# Altium footprint library Connector_PinSocket_2.00mm.PcbLib: 278 footprints (part 14 of 18)
Each footprint in its own frame and in the unit in brackets; x right, y up, seen from the top. Pads: shape width x height; smd on the part's side, far side on the other; paste and mask are expansions set on the pad; w line width, h text height; cw(c..) or ccw(c..) is an arc to the next point about the centre after c.
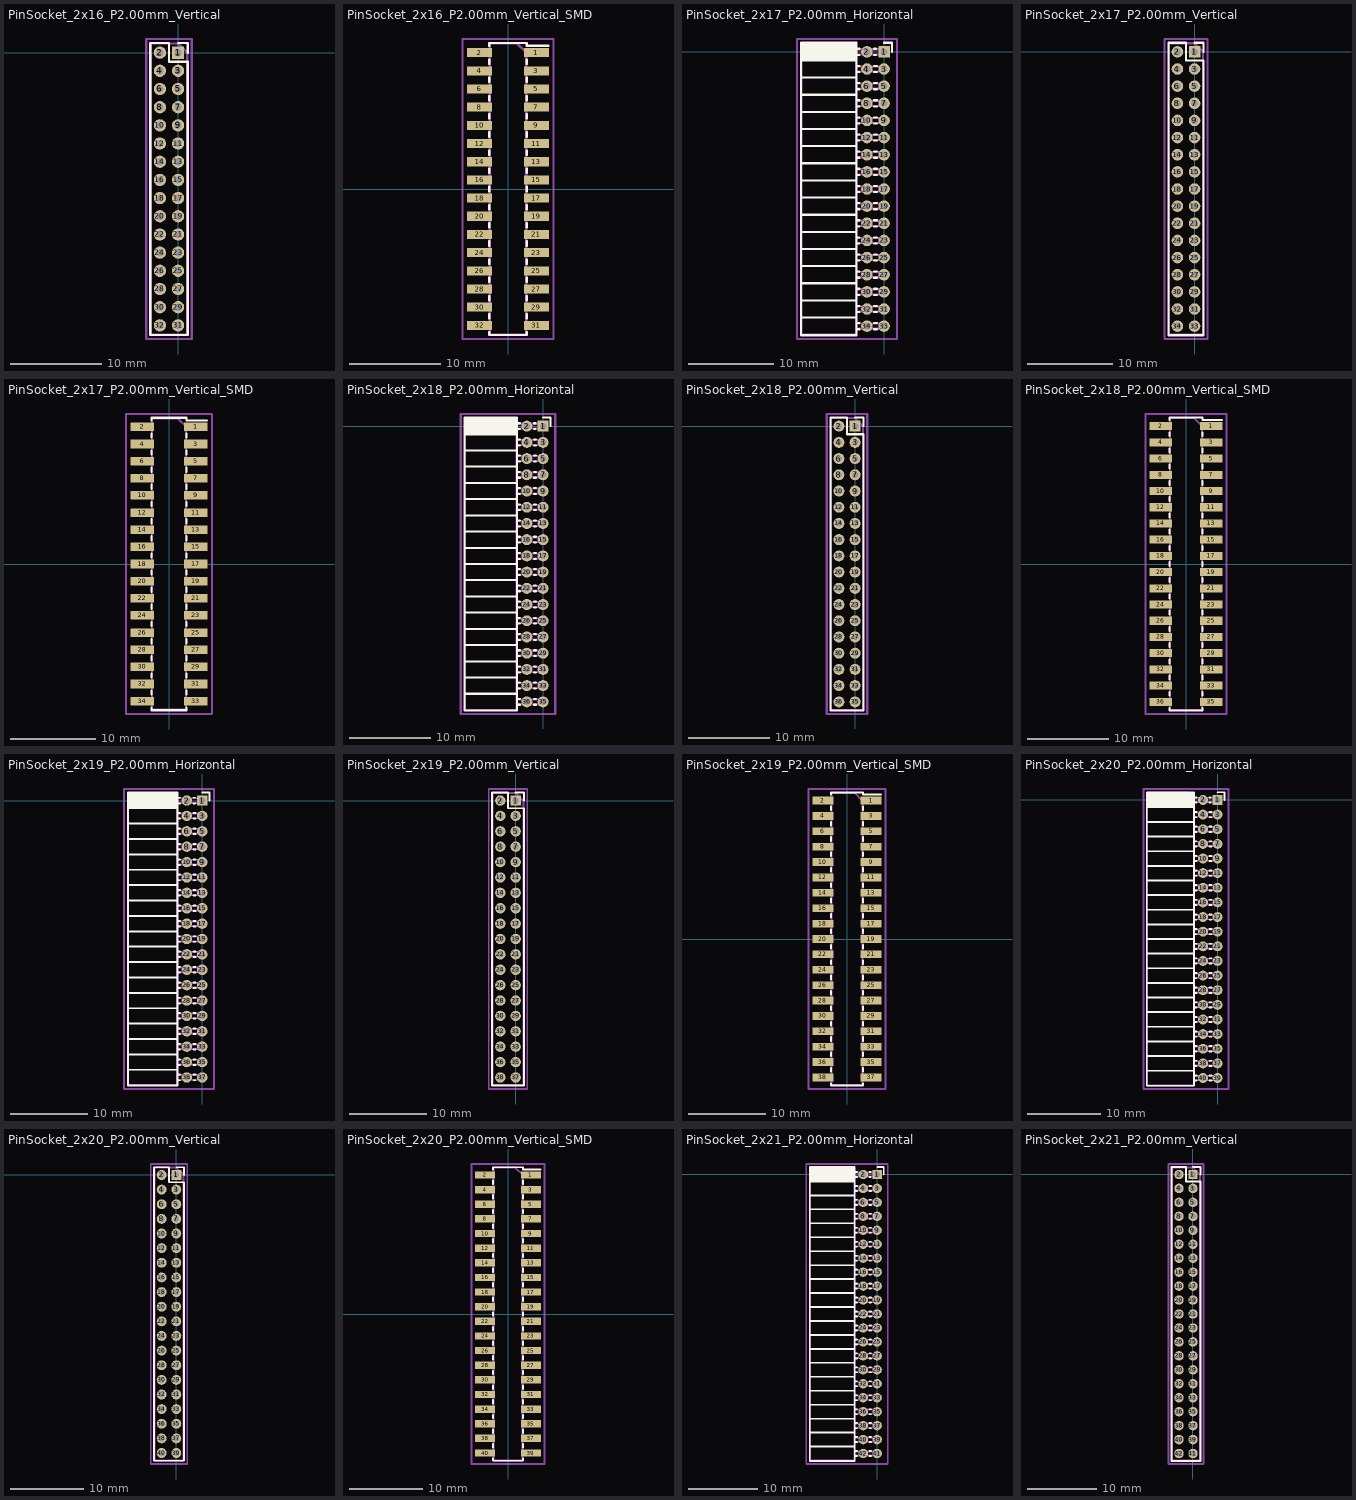
[diagram p13: the footprints below, top view; thin cyan lines are the x and y axes]

## PinSocket_2x16_P2.00mm_Vertical [mm]
pads (32):
  rect 1.35x1.35 hole 0.8: 1(0,0)
  round 1.35 hole 0.8: 2(-2,0) 3(0,-2) 4(-2,-2) 5(0,-4) 6(-2,-4) 7(0,-6) 8(-2,-6) 9(0,-8) 10(-2,-8) 11(0,-10) 12(-2,-10) 13(0,-12) 14(-2,-12) 15(0,-14) 16(-2,-14) 17(0,-16) 18(-2,-16) 19(0,-18) 20(-2,-18) 21(0,-20) 22(-2,-20) 23(0,-22) 24(-2,-22) 25(0,-24) 26(-2,-24) 27(0,-26) 28(-2,-26) 29(0,-28) 30(-2,-28) 31(0,-30) 32(-2,-30)
F.SilkS:
  lines w0.254: 0,1.06 1.06,1.06 1.06,0 ; -3.06,-31.06 1.06,-31.06 1.06,-1 -1,-1 -1,1.06 -3.06,1.06 -3.06,-31.06
Top Assembly:
  lines w0.254: -3,-31 1,-31 1,0 0,1 -3,1 -3,-31
  text "'.Designator'" at -0.16,-19.047 h1
Top Courtyard:
  lines w0.254: -3.5,-31.5 1.5,-31.5 1.5,1.5 -3.5,1.5 -3.5,-31.5
Top Designator:
  text ".Designator" at -8.618,-15.508 h1.52

## PinSocket_2x16_P2.00mm_Vertical_SMD [mm]
pads (32):
  rect 2.75x1 smd: 1(3.125,15) 2(-3.125,15) 3(3.125,13) 4(-3.125,13) 5(3.125,11) 6(-3.125,11) 7(3.125,9) 8(-3.125,9) 9(3.125,7) 10(-3.125,7) 11(3.125,5) 12(-3.125,5) 13(3.125,3) 14(-3.125,3) 15(3.125,1) 16(-3.125,1) 17(3.125,-1) 18(-3.125,-1) 19(3.125,-3) 20(-3.125,-3) 21(3.125,-5) 22(-3.125,-5) 23(3.125,-7) 24(-3.125,-7) 25(3.125,-9) 26(-3.125,-9) 27(3.125,-11) 28(-3.125,-11) 29(3.125,-13) 30(-3.125,-13) 31(3.125,-15) 32(-3.125,-15)
F.SilkS:
  lines w0.254: -2.06,-15.76 -2.06,-16.06 2.06,-16.06 2.06,-15.76 ; -2.06,-14.24 -2.06,-13.76 ; -2.06,-12.24 -2.06,-11.76 ; -2.06,-10.24 -2.06,-9.76 ; -2.06,-8.24 -2.06,-7.76 ; -2.06,-6.24 -2.06,-5.76 ; -2.06,-4.24 -2.06,-3.76 ; -2.06,-2.24 -2.06,-1.76 ; -2.06,-0.24 -2.06,0.24 ; -2.06,1.76 -2.06,2.24 ; -2.06,3.76 -2.06,4.24 ; -2.06,5.76 -2.06,6.24 ; -2.06,7.76 -2.06,8.24 ; -2.06,9.76 -2.06,10.24 ; -2.06,11.76 -2.06,12.24 ; -2.06,13.76 -2.06,14.24 ; -2.06,15.76 -2.06,16.06 2.06,16.06 2.06,15.76 4.44,15.76 ; 2.06,-14.24 2.06,-13.76 ; 2.06,-12.24 2.06,-11.76 ; 2.06,-10.24 2.06,-9.76 ; 2.06,-8.24 2.06,-7.76 ; 2.06,-6.24 2.06,-5.76 ; 2.06,-4.24 2.06,-3.76 ; 2.06,-2.24 2.06,-1.76 ; 2.06,-0.24 2.06,0.24 ; 2.06,1.76 2.06,2.24 ; 2.06,3.76 2.06,4.24 ; 2.06,5.76 2.06,6.24 ; 2.06,7.76 2.06,8.24 ; 2.06,9.76 2.06,10.24 ; 2.06,11.76 2.06,12.24 ; 2.06,13.76 2.06,14.24
Top Assembly:
  lines w0.254: -2,-15.25 -3,-15.25 -3,-14.75 -2,-14.75 ; -2,-13.25 -3,-13.25 -3,-12.75 -2,-12.75 ; -2,-11.25 -3,-11.25 -3,-10.75 -2,-10.75 ; -2,-9.25 -3,-9.25 -3,-8.75 -2,-8.75 ; -2,-7.25 -3,-7.25 -3,-6.75 -2,-6.75 ; -2,-5.25 -3,-5.25 -3,-4.75 -2,-4.75 ; -2,-3.25 -3,-3.25 -3,-2.75 -2,-2.75 ; -2,-1.25 -3,-1.25 -3,-0.75 -2,-0.75 ; -2,0.75 -3,0.75 -3,1.25 -2,1.25 ; -2,2.75 -3,2.75 -3,3.25 -2,3.25 ; -2,4.75 -3,4.75 -3,5.25 -2,5.25 ; -2,6.75 -3,6.75 -3,7.25 -2,7.25 ; -2,8.75 -3,8.75 -3,9.25 -2,9.25 ; -2,10.75 -3,10.75 -3,11.25 -2,11.25 ; -2,12.75 -3,12.75 -3,13.25 -2,13.25 ; -2,14.75 -3,14.75 -3,15.25 -2,15.25 ; 2,-15.25 3,-15.25 3,-14.75 2,-14.75 ; 2,-13.25 3,-13.25 3,-12.75 2,-12.75 ; 2,-11.25 3,-11.25 3,-10.75 2,-10.75 ; 2,-9.25 3,-9.25 3,-8.75 2,-8.75 ; 2,-7.25 3,-7.25 3,-6.75 2,-6.75 ; 2,-5.25 3,-5.25 3,-4.75 2,-4.75 ; 2,-3.25 3,-3.25 3,-2.75 2,-2.75 ; 2,-1.25 3,-1.25 3,-0.75 2,-0.75 ; 2,0.75 3,0.75 3,1.25 2,1.25 ; 2,2.75 3,2.75 3,3.25 2,3.25 ; 2,4.75 3,4.75 3,5.25 2,5.25 ; 2,6.75 3,6.75 3,7.25 2,7.25 ; 2,8.75 3,8.75 3,9.25 2,9.25 ; 2,10.75 3,10.75 3,11.25 2,11.25 ; 2,12.75 3,12.75 3,13.25 2,13.25 ; 2,14.75 3,14.75 3,15.25 2,15.25 ; -2,-16 2,-16 2,15 1,16 -2,16 -2,-16
  text "'.Designator'" at 0.84,-4.047 h1
Top Courtyard:
  lines w0.254: -5,-16.5 5,-16.5 5,16.5 -5,16.5 -5,-16.5
Top Designator:
  text ".Designator" at -7.618,-0.508 h1.52

## PinSocket_2x17_P2.00mm_Horizontal [mm]
pads (34):
  rect 1.35x1.35 hole 0.8: 1(0,0)
  round 1.35 hole 0.8: 2(-2,0) 3(0,-2) 4(-2,-2) 5(0,-4) 6(-2,-4) 7(0,-6) 8(-2,-6) 9(0,-8) 10(-2,-8) 11(0,-10) 12(-2,-10) 13(0,-12) 14(-2,-12) 15(0,-14) 16(-2,-14) 17(0,-16) 18(-2,-16) 19(0,-18) 20(-2,-18) 21(0,-20) 22(-2,-20) 23(0,-22) 24(-2,-22) 25(0,-24) 26(-2,-24) 27(0,-26) 28(-2,-26) 29(0,-28) 30(-2,-28) 31(0,-30) 32(-2,-30) 33(0,-32) 34(-2,-32)
F.SilkS:
  lines w0.254: -9.68,-31 -3.21,-31 ; -9.68,-29 -3.21,-29 ; -9.68,-27 -3.21,-27 ; -9.68,-25 -3.21,-25 ; -9.68,-23 -3.21,-23 ; -9.68,-21 -3.21,-21 ; -9.68,-19 -3.21,-19 ; -9.68,-17 -3.21,-17 ; -9.68,-15 -3.21,-15 ; -9.68,-13 -3.21,-13 ; -9.68,-11 -3.21,-11 ; -9.68,-9 -3.21,-9 ; -9.68,-7 -3.21,-7 ; -9.68,-5 -3.21,-5 ; -9.68,-3 -3.21,-3 ; -9.68,-1 -3.21,-1 ; -9.68,-0.886 -3.21,-0.886 ; -9.68,-0.772 -3.21,-0.772 ; -9.68,-0.658 -3.21,-0.658 ; -9.68,-0.544 -3.21,-0.544 ; -9.68,-0.429 -3.21,-0.429 ; -9.68,-0.315 -3.21,-0.315 ; -9.68,-0.201 -3.21,-0.201 ; -9.68,-0.087 -3.21,-0.087 ; -9.68,0.027 -3.21,0.027 ; -9.68,0.141 -3.21,0.141 ; -9.68,0.255 -3.21,0.255 ; -9.68,0.369 -3.21,0.369 ; -9.68,0.484 -3.21,0.484 ; -9.68,0.598 -3.21,0.598 ; -9.68,0.712 -3.21,0.712 ; -9.68,0.826 -3.21,0.826 ; -9.68,0.94 -3.21,0.94 ; -3.21,-32.36 -2.863,-32.36 ; -3.21,-31.64 -2.863,-31.64 ; -3.21,-30.36 -2.863,-30.36 ; -3.21,-29.64 -2.863,-29.64 ; -3.21,-28.36 -2.863,-28.36 ; -3.21,-27.64 -2.863,-27.64 ; -3.21,-26.36 -2.863,-26.36 ; -3.21,-25.64 -2.863,-25.64 ; -3.21,-24.36 -2.863,-24.36 ; -3.21,-23.64 -2.863,-23.64 ; -3.21,-22.36 -2.863,-22.36 ; -3.21,-21.64 -2.863,-21.64 ; -3.21,-20.36 -2.863,-20.36 ; -3.21,-19.64 -2.863,-19.64 ; -3.21,-18.36 -2.863,-18.36 ; -3.21,-17.64 -2.863,-17.64 ; -3.21,-16.36 -2.863,-16.36 ; -3.21,-15.64 -2.863,-15.64 ; -3.21,-14.36 -2.863,-14.36 ; -3.21,-13.64 -2.863,-13.64 ; -3.21,-12.36 -2.863,-12.36 ; -3.21,-11.64 -2.863,-11.64 ; -3.21,-10.36 -2.863,-10.36 ; -3.21,-9.64 -2.863,-9.64 ; -3.21,-8.36 -2.863,-8.36 ; -3.21,-7.64 -2.863,-7.64 ; -3.21,-6.36 -2.863,-6.36 ; -3.21,-5.64 -2.863,-5.64 ; -3.21,-4.36 -2.863,-4.36 ; -3.21,-3.64 -2.863,-3.64 ; -3.21,-2.36 -2.863,-2.36 ; -3.21,-1.64 -2.863,-1.64 ; -3.21,-0.36 -2.863,-0.36 ; -3.21,0.36 -2.863,0.36 ; -1.137,-32.36 -0.863,-32.36 ; -1.137,-31.64 -0.863,-31.64 ; -1.137,-30.36 -0.863,-30.36 ; -1.137,-29.64 -0.863,-29.64 ; -1.137,-28.36 -0.863,-28.36 ; -1.137,-27.64 -0.863,-27.64 ; -1.137,-26.36 -0.863,-26.36 ; -1.137,-25.64 -0.863,-25.64 ; -1.137,-24.36 -0.863,-24.36 ; -1.137,-23.64 -0.863,-23.64 ; -1.137,-22.36 -0.863,-22.36 ; -1.137,-21.64 -0.863,-21.64 ; -1.137,-20.36 -0.863,-20.36 ; -1.137,-19.64 -0.863,-19.64 ; -1.137,-18.36 -0.863,-18.36 ; -1.137,-17.64 -0.863,-17.64 ; -1.137,-16.36 -0.863,-16.36 ; -1.137,-15.64 -0.863,-15.64 ; -1.137,-14.36 -0.863,-14.36 ; -1.137,-13.64 -0.863,-13.64 ; -1.137,-12.36 -0.863,-12.36 ; -1.137,-11.64 -0.863,-11.64 ; -1.137,-10.36 -0.863,-10.36 ; -1.137,-9.64 -0.863,-9.64 ; -1.137,-8.36 -0.863,-8.36 ; -1.137,-7.64 -0.863,-7.64 ; -1.137,-6.36 -0.863,-6.36 ; -1.137,-5.64 -0.863,-5.64 ; -1.137,-4.36 -0.863,-4.36 ; -1.137,-3.64 -0.863,-3.64 ; -1.137,-2.36 -0.863,-2.36 ; -1.137,-1.64 -0.863,-1.64 ; -1.137,-0.36 -0.935,-0.36 ; -1.137,0.36 -0.935,0.36 ; 0,1.06 0.935,1.06 0.935,0 ; -9.68,-33.06 -3.21,-33.06 -3.21,1.06 -9.68,1.06 -9.68,-33.06
Top Assembly:
  lines w0.254: -3.27,-32.3 0,-32.3 0,-31.7 -3.27,-31.7 ; -3.27,-30.3 0,-30.3 0,-29.7 -3.27,-29.7 ; -3.27,-28.3 0,-28.3 0,-27.7 -3.27,-27.7 ; -3.27,-26.3 0,-26.3 0,-25.7 -3.27,-25.7 ; -3.27,-24.3 0,-24.3 0,-23.7 -3.27,-23.7 ; -3.27,-22.3 0,-22.3 0,-21.7 -3.27,-21.7 ; -3.27,-20.3 0,-20.3 0,-19.7 -3.27,-19.7 ; -3.27,-18.3 0,-18.3 0,-17.7 -3.27,-17.7 ; -3.27,-16.3 0,-16.3 0,-15.7 -3.27,-15.7 ; -3.27,-14.3 0,-14.3 0,-13.7 -3.27,-13.7 ; -3.27,-12.3 0,-12.3 0,-11.7 -3.27,-11.7 ; -3.27,-10.3 0,-10.3 0,-9.7 -3.27,-9.7 ; -3.27,-8.3 0,-8.3 0,-7.7 -3.27,-7.7 ; -3.27,-6.3 0,-6.3 0,-5.7 -3.27,-5.7 ; -3.27,-4.3 0,-4.3 0,-3.7 -3.27,-3.7 ; -3.27,-2.3 0,-2.3 0,-1.7 -3.27,-1.7 ; -3.27,-0.3 0,-0.3 0,0.3 -3.27,0.3 ; -3.27,0.3 -3.27,-33 -9.62,-33 -9.62,1 -3.97,1 -3.27,0.3
  text "'.Designator'" at -5.605,-20.047 h1
Top Courtyard:
  lines w0.254: -10.15,-33.5 1.5,-33.5 1.5,1.5 -10.15,1.5 -10.15,-33.5
Top Designator:
  text ".Designator" at -11.943,-16.508 h1.52

## PinSocket_2x17_P2.00mm_Vertical [mm]
pads (34):
  rect 1.35x1.35 hole 0.8: 1(0,0)
  round 1.35 hole 0.8: 2(-2,0) 3(0,-2) 4(-2,-2) 5(0,-4) 6(-2,-4) 7(0,-6) 8(-2,-6) 9(0,-8) 10(-2,-8) 11(0,-10) 12(-2,-10) 13(0,-12) 14(-2,-12) 15(0,-14) 16(-2,-14) 17(0,-16) 18(-2,-16) 19(0,-18) 20(-2,-18) 21(0,-20) 22(-2,-20) 23(0,-22) 24(-2,-22) 25(0,-24) 26(-2,-24) 27(0,-26) 28(-2,-26) 29(0,-28) 30(-2,-28) 31(0,-30) 32(-2,-30) 33(0,-32) 34(-2,-32)
F.SilkS:
  lines w0.254: 0,1.06 1.06,1.06 1.06,0 ; -3.06,-33.06 1.06,-33.06 1.06,-1 -1,-1 -1,1.06 -3.06,1.06 -3.06,-33.06
Top Assembly:
  lines w0.254: -3,-33 1,-33 1,0 0,1 -3,1 -3,-33
  text "'.Designator'" at -0.16,-20.047 h1
Top Courtyard:
  lines w0.254: -3.5,-33.5 1.5,-33.5 1.5,1.5 -3.5,1.5 -3.5,-33.5
Top Designator:
  text ".Designator" at -8.618,-16.508 h1.52

## PinSocket_2x17_P2.00mm_Vertical_SMD [mm]
pads (34):
  rect 2.75x1 smd: 1(3.125,16) 2(-3.125,16) 3(3.125,14) 4(-3.125,14) 5(3.125,12) 6(-3.125,12) 7(3.125,10) 8(-3.125,10) 9(3.125,8) 10(-3.125,8) 11(3.125,6) 12(-3.125,6) 13(3.125,4) 14(-3.125,4) 15(3.125,2) 16(-3.125,2) 17(3.125,0) 18(-3.125,0) 19(3.125,-2) 20(-3.125,-2) 21(3.125,-4) 22(-3.125,-4) 23(3.125,-6) 24(-3.125,-6) 25(3.125,-8) 26(-3.125,-8) 27(3.125,-10) 28(-3.125,-10) 29(3.125,-12) 30(-3.125,-12) 31(3.125,-14) 32(-3.125,-14) 33(3.125,-16) 34(-3.125,-16)
F.SilkS:
  lines w0.254: -2.06,-16.76 -2.06,-17.06 2.06,-17.06 2.06,-16.76 ; -2.06,-15.24 -2.06,-14.76 ; -2.06,-13.24 -2.06,-12.76 ; -2.06,-11.24 -2.06,-10.76 ; -2.06,-9.24 -2.06,-8.76 ; -2.06,-7.24 -2.06,-6.76 ; -2.06,-5.24 -2.06,-4.76 ; -2.06,-3.24 -2.06,-2.76 ; -2.06,-1.24 -2.06,-0.76 ; -2.06,0.76 -2.06,1.24 ; -2.06,2.76 -2.06,3.24 ; -2.06,4.76 -2.06,5.24 ; -2.06,6.76 -2.06,7.24 ; -2.06,8.76 -2.06,9.24 ; -2.06,10.76 -2.06,11.24 ; -2.06,12.76 -2.06,13.24 ; -2.06,14.76 -2.06,15.24 ; -2.06,16.76 -2.06,17.06 2.06,17.06 2.06,16.76 4.44,16.76 ; 2.06,-15.24 2.06,-14.76 ; 2.06,-13.24 2.06,-12.76 ; 2.06,-11.24 2.06,-10.76 ; 2.06,-9.24 2.06,-8.76 ; 2.06,-7.24 2.06,-6.76 ; 2.06,-5.24 2.06,-4.76 ; 2.06,-3.24 2.06,-2.76 ; 2.06,-1.24 2.06,-0.76 ; 2.06,0.76 2.06,1.24 ; 2.06,2.76 2.06,3.24 ; 2.06,4.76 2.06,5.24 ; 2.06,6.76 2.06,7.24 ; 2.06,8.76 2.06,9.24 ; 2.06,10.76 2.06,11.24 ; 2.06,12.76 2.06,13.24 ; 2.06,14.76 2.06,15.24
Top Assembly:
  lines w0.254: -2,-16.25 -3,-16.25 -3,-15.75 -2,-15.75 ; -2,-14.25 -3,-14.25 -3,-13.75 -2,-13.75 ; -2,-12.25 -3,-12.25 -3,-11.75 -2,-11.75 ; -2,-10.25 -3,-10.25 -3,-9.75 -2,-9.75 ; -2,-8.25 -3,-8.25 -3,-7.75 -2,-7.75 ; -2,-6.25 -3,-6.25 -3,-5.75 -2,-5.75 ; -2,-4.25 -3,-4.25 -3,-3.75 -2,-3.75 ; -2,-2.25 -3,-2.25 -3,-1.75 -2,-1.75 ; -2,-0.25 -3,-0.25 -3,0.25 -2,0.25 ; -2,1.75 -3,1.75 -3,2.25 -2,2.25 ; -2,3.75 -3,3.75 -3,4.25 -2,4.25 ; -2,5.75 -3,5.75 -3,6.25 -2,6.25 ; -2,7.75 -3,7.75 -3,8.25 -2,8.25 ; -2,9.75 -3,9.75 -3,10.25 -2,10.25 ; -2,11.75 -3,11.75 -3,12.25 -2,12.25 ; -2,13.75 -3,13.75 -3,14.25 -2,14.25 ; -2,15.75 -3,15.75 -3,16.25 -2,16.25 ; 2,-16.25 3,-16.25 3,-15.75 2,-15.75 ; 2,-14.25 3,-14.25 3,-13.75 2,-13.75 ; 2,-12.25 3,-12.25 3,-11.75 2,-11.75 ; 2,-10.25 3,-10.25 3,-9.75 2,-9.75 ; 2,-8.25 3,-8.25 3,-7.75 2,-7.75 ; 2,-6.25 3,-6.25 3,-5.75 2,-5.75 ; 2,-4.25 3,-4.25 3,-3.75 2,-3.75 ; 2,-2.25 3,-2.25 3,-1.75 2,-1.75 ; 2,-0.25 3,-0.25 3,0.25 2,0.25 ; 2,1.75 3,1.75 3,2.25 2,2.25 ; 2,3.75 3,3.75 3,4.25 2,4.25 ; 2,5.75 3,5.75 3,6.25 2,6.25 ; 2,7.75 3,7.75 3,8.25 2,8.25 ; 2,9.75 3,9.75 3,10.25 2,10.25 ; 2,11.75 3,11.75 3,12.25 2,12.25 ; 2,13.75 3,13.75 3,14.25 2,14.25 ; 2,15.75 3,15.75 3,16.25 2,16.25 ; -2,-17 2,-17 2,16 1,17 -2,17 -2,-17
  text "'.Designator'" at 0.84,-4.047 h1
Top Courtyard:
  lines w0.254: -5,-17.5 5,-17.5 5,17.5 -5,17.5 -5,-17.5
Top Designator:
  text ".Designator" at -7.618,-0.508 h1.52

## PinSocket_2x18_P2.00mm_Horizontal [mm]
pads (36):
  rect 1.35x1.35 hole 0.8: 1(0,0)
  round 1.35 hole 0.8: 2(-2,0) 3(0,-2) 4(-2,-2) 5(0,-4) 6(-2,-4) 7(0,-6) 8(-2,-6) 9(0,-8) 10(-2,-8) 11(0,-10) 12(-2,-10) 13(0,-12) 14(-2,-12) 15(0,-14) 16(-2,-14) 17(0,-16) 18(-2,-16) 19(0,-18) 20(-2,-18) 21(0,-20) 22(-2,-20) 23(0,-22) 24(-2,-22) 25(0,-24) 26(-2,-24) 27(0,-26) 28(-2,-26) 29(0,-28) 30(-2,-28) 31(0,-30) 32(-2,-30) 33(0,-32) 34(-2,-32) 35(0,-34) 36(-2,-34)
F.SilkS:
  lines w0.254: -9.68,-33 -3.21,-33 ; -9.68,-31 -3.21,-31 ; -9.68,-29 -3.21,-29 ; -9.68,-27 -3.21,-27 ; -9.68,-25 -3.21,-25 ; -9.68,-23 -3.21,-23 ; -9.68,-21 -3.21,-21 ; -9.68,-19 -3.21,-19 ; -9.68,-17 -3.21,-17 ; -9.68,-15 -3.21,-15 ; -9.68,-13 -3.21,-13 ; -9.68,-11 -3.21,-11 ; -9.68,-9 -3.21,-9 ; -9.68,-7 -3.21,-7 ; -9.68,-5 -3.21,-5 ; -9.68,-3 -3.21,-3 ; -9.68,-1 -3.21,-1 ; -9.68,-0.886 -3.21,-0.886 ; -9.68,-0.772 -3.21,-0.772 ; -9.68,-0.658 -3.21,-0.658 ; -9.68,-0.544 -3.21,-0.544 ; -9.68,-0.429 -3.21,-0.429 ; -9.68,-0.315 -3.21,-0.315 ; -9.68,-0.201 -3.21,-0.201 ; -9.68,-0.087 -3.21,-0.087 ; -9.68,0.027 -3.21,0.027 ; -9.68,0.141 -3.21,0.141 ; -9.68,0.255 -3.21,0.255 ; -9.68,0.369 -3.21,0.369 ; -9.68,0.484 -3.21,0.484 ; -9.68,0.598 -3.21,0.598 ; -9.68,0.712 -3.21,0.712 ; -9.68,0.826 -3.21,0.826 ; -9.68,0.94 -3.21,0.94 ; -3.21,-34.36 -2.863,-34.36 ; -3.21,-33.64 -2.863,-33.64 ; -3.21,-32.36 -2.863,-32.36 ; -3.21,-31.64 -2.863,-31.64 ; -3.21,-30.36 -2.863,-30.36 ; -3.21,-29.64 -2.863,-29.64 ; -3.21,-28.36 -2.863,-28.36 ; -3.21,-27.64 -2.863,-27.64 ; -3.21,-26.36 -2.863,-26.36 ; -3.21,-25.64 -2.863,-25.64 ; -3.21,-24.36 -2.863,-24.36 ; -3.21,-23.64 -2.863,-23.64 ; -3.21,-22.36 -2.863,-22.36 ; -3.21,-21.64 -2.863,-21.64 ; -3.21,-20.36 -2.863,-20.36 ; -3.21,-19.64 -2.863,-19.64 ; -3.21,-18.36 -2.863,-18.36 ; -3.21,-17.64 -2.863,-17.64 ; -3.21,-16.36 -2.863,-16.36 ; -3.21,-15.64 -2.863,-15.64 ; -3.21,-14.36 -2.863,-14.36 ; -3.21,-13.64 -2.863,-13.64 ; -3.21,-12.36 -2.863,-12.36 ; -3.21,-11.64 -2.863,-11.64 ; -3.21,-10.36 -2.863,-10.36 ; -3.21,-9.64 -2.863,-9.64 ; -3.21,-8.36 -2.863,-8.36 ; -3.21,-7.64 -2.863,-7.64 ; -3.21,-6.36 -2.863,-6.36 ; -3.21,-5.64 -2.863,-5.64 ; -3.21,-4.36 -2.863,-4.36 ; -3.21,-3.64 -2.863,-3.64 ; -3.21,-2.36 -2.863,-2.36 ; -3.21,-1.64 -2.863,-1.64 ; -3.21,-0.36 -2.863,-0.36 ; -3.21,0.36 -2.863,0.36 ; -1.137,-34.36 -0.863,-34.36 ; -1.137,-33.64 -0.863,-33.64 ; -1.137,-32.36 -0.863,-32.36 ; -1.137,-31.64 -0.863,-31.64 ; -1.137,-30.36 -0.863,-30.36 ; -1.137,-29.64 -0.863,-29.64 ; -1.137,-28.36 -0.863,-28.36 ; -1.137,-27.64 -0.863,-27.64 ; -1.137,-26.36 -0.863,-26.36 ; -1.137,-25.64 -0.863,-25.64 ; -1.137,-24.36 -0.863,-24.36 ; -1.137,-23.64 -0.863,-23.64 ; -1.137,-22.36 -0.863,-22.36 ; -1.137,-21.64 -0.863,-21.64 ; -1.137,-20.36 -0.863,-20.36 ; -1.137,-19.64 -0.863,-19.64 ; -1.137,-18.36 -0.863,-18.36 ; -1.137,-17.64 -0.863,-17.64 ; -1.137,-16.36 -0.863,-16.36 ; -1.137,-15.64 -0.863,-15.64 ; -1.137,-14.36 -0.863,-14.36 ; -1.137,-13.64 -0.863,-13.64 ; -1.137,-12.36 -0.863,-12.36 ; -1.137,-11.64 -0.863,-11.64 ; -1.137,-10.36 -0.863,-10.36 ; -1.137,-9.64 -0.863,-9.64 ; -1.137,-8.36 -0.863,-8.36 ; -1.137,-7.64 -0.863,-7.64 ; -1.137,-6.36 -0.863,-6.36 ; -1.137,-5.64 -0.863,-5.64 ; -1.137,-4.36 -0.863,-4.36 ; -1.137,-3.64 -0.863,-3.64 ; -1.137,-2.36 -0.863,-2.36 ; -1.137,-1.64 -0.863,-1.64 ; -1.137,-0.36 -0.935,-0.36 ; -1.137,0.36 -0.935,0.36 ; 0,1.06 0.935,1.06 0.935,0 ; -9.68,-35.06 -3.21,-35.06 -3.21,1.06 -9.68,1.06 -9.68,-35.06
Top Assembly:
  lines w0.254: -3.27,-34.3 0,-34.3 0,-33.7 -3.27,-33.7 ; -3.27,-32.3 0,-32.3 0,-31.7 -3.27,-31.7 ; -3.27,-30.3 0,-30.3 0,-29.7 -3.27,-29.7 ; -3.27,-28.3 0,-28.3 0,-27.7 -3.27,-27.7 ; -3.27,-26.3 0,-26.3 0,-25.7 -3.27,-25.7 ; -3.27,-24.3 0,-24.3 0,-23.7 -3.27,-23.7 ; -3.27,-22.3 0,-22.3 0,-21.7 -3.27,-21.7 ; -3.27,-20.3 0,-20.3 0,-19.7 -3.27,-19.7 ; -3.27,-18.3 0,-18.3 0,-17.7 -3.27,-17.7 ; -3.27,-16.3 0,-16.3 0,-15.7 -3.27,-15.7 ; -3.27,-14.3 0,-14.3 0,-13.7 -3.27,-13.7 ; -3.27,-12.3 0,-12.3 0,-11.7 -3.27,-11.7 ; -3.27,-10.3 0,-10.3 0,-9.7 -3.27,-9.7 ; -3.27,-8.3 0,-8.3 0,-7.7 -3.27,-7.7 ; -3.27,-6.3 0,-6.3 0,-5.7 -3.27,-5.7 ; -3.27,-4.3 0,-4.3 0,-3.7 -3.27,-3.7 ; -3.27,-2.3 0,-2.3 0,-1.7 -3.27,-1.7 ; -3.27,-0.3 0,-0.3 0,0.3 -3.27,0.3 ; -3.27,0.3 -3.27,-35 -9.62,-35 -9.62,1 -3.97,1 -3.27,0.3
  text "'.Designator'" at -5.605,-21.047 h1
Top Courtyard:
  lines w0.254: -10.15,-35.5 1.5,-35.5 1.5,1.5 -10.15,1.5 -10.15,-35.5
Top Designator:
  text ".Designator" at -11.943,-17.508 h1.52

## PinSocket_2x18_P2.00mm_Vertical [mm]
pads (36):
  rect 1.35x1.35 hole 0.8: 1(0,0)
  round 1.35 hole 0.8: 2(-2,0) 3(0,-2) 4(-2,-2) 5(0,-4) 6(-2,-4) 7(0,-6) 8(-2,-6) 9(0,-8) 10(-2,-8) 11(0,-10) 12(-2,-10) 13(0,-12) 14(-2,-12) 15(0,-14) 16(-2,-14) 17(0,-16) 18(-2,-16) 19(0,-18) 20(-2,-18) 21(0,-20) 22(-2,-20) 23(0,-22) 24(-2,-22) 25(0,-24) 26(-2,-24) 27(0,-26) 28(-2,-26) 29(0,-28) 30(-2,-28) 31(0,-30) 32(-2,-30) 33(0,-32) 34(-2,-32) 35(0,-34) 36(-2,-34)
F.SilkS:
  lines w0.254: 0,1.06 1.06,1.06 1.06,0 ; -3.06,-35.06 1.06,-35.06 1.06,-1 -1,-1 -1,1.06 -3.06,1.06 -3.06,-35.06
Top Assembly:
  lines w0.254: -3,-35 1,-35 1,0 0,1 -3,1 -3,-35
  text "'.Designator'" at -0.16,-21.047 h1
Top Courtyard:
  lines w0.254: -3.5,-35.5 1.5,-35.5 1.5,1.5 -3.5,1.5 -3.5,-35.5
Top Designator:
  text ".Designator" at -8.618,-17.508 h1.52

## PinSocket_2x18_P2.00mm_Vertical_SMD [mm]
pads (36):
  rect 2.75x1 smd: 1(3.125,17) 2(-3.125,17) 3(3.125,15) 4(-3.125,15) 5(3.125,13) 6(-3.125,13) 7(3.125,11) 8(-3.125,11) 9(3.125,9) 10(-3.125,9) 11(3.125,7) 12(-3.125,7) 13(3.125,5) 14(-3.125,5) 15(3.125,3) 16(-3.125,3) 17(3.125,1) 18(-3.125,1) 19(3.125,-1) 20(-3.125,-1) 21(3.125,-3) 22(-3.125,-3) 23(3.125,-5) 24(-3.125,-5) 25(3.125,-7) 26(-3.125,-7) 27(3.125,-9) 28(-3.125,-9) 29(3.125,-11) 30(-3.125,-11) 31(3.125,-13) 32(-3.125,-13) 33(3.125,-15) 34(-3.125,-15) 35(3.125,-17) 36(-3.125,-17)
F.SilkS:
  lines w0.254: -2.06,-17.76 -2.06,-18.06 2.06,-18.06 2.06,-17.76 ; -2.06,-16.24 -2.06,-15.76 ; -2.06,-14.24 -2.06,-13.76 ; -2.06,-12.24 -2.06,-11.76 ; -2.06,-10.24 -2.06,-9.76 ; -2.06,-8.24 -2.06,-7.76 ; -2.06,-6.24 -2.06,-5.76 ; -2.06,-4.24 -2.06,-3.76 ; -2.06,-2.24 -2.06,-1.76 ; -2.06,-0.24 -2.06,0.24 ; -2.06,1.76 -2.06,2.24 ; -2.06,3.76 -2.06,4.24 ; -2.06,5.76 -2.06,6.24 ; -2.06,7.76 -2.06,8.24 ; -2.06,9.76 -2.06,10.24 ; -2.06,11.76 -2.06,12.24 ; -2.06,13.76 -2.06,14.24 ; -2.06,15.76 -2.06,16.24 ; -2.06,17.76 -2.06,18.06 2.06,18.06 2.06,17.76 4.44,17.76 ; 2.06,-16.24 2.06,-15.76 ; 2.06,-14.24 2.06,-13.76 ; 2.06,-12.24 2.06,-11.76 ; 2.06,-10.24 2.06,-9.76 ; 2.06,-8.24 2.06,-7.76 ; 2.06,-6.24 2.06,-5.76 ; 2.06,-4.24 2.06,-3.76 ; 2.06,-2.24 2.06,-1.76 ; 2.06,-0.24 2.06,0.24 ; 2.06,1.76 2.06,2.24 ; 2.06,3.76 2.06,4.24 ; 2.06,5.76 2.06,6.24 ; 2.06,7.76 2.06,8.24 ; 2.06,9.76 2.06,10.24 ; 2.06,11.76 2.06,12.24 ; 2.06,13.76 2.06,14.24 ; 2.06,15.76 2.06,16.24
Top Assembly:
  lines w0.254: -2,-17.25 -3,-17.25 -3,-16.75 -2,-16.75 ; -2,-15.25 -3,-15.25 -3,-14.75 -2,-14.75 ; -2,-13.25 -3,-13.25 -3,-12.75 -2,-12.75 ; -2,-11.25 -3,-11.25 -3,-10.75 -2,-10.75 ; -2,-9.25 -3,-9.25 -3,-8.75 -2,-8.75 ; -2,-7.25 -3,-7.25 -3,-6.75 -2,-6.75 ; -2,-5.25 -3,-5.25 -3,-4.75 -2,-4.75 ; -2,-3.25 -3,-3.25 -3,-2.75 -2,-2.75 ; -2,-1.25 -3,-1.25 -3,-0.75 -2,-0.75 ; -2,0.75 -3,0.75 -3,1.25 -2,1.25 ; -2,2.75 -3,2.75 -3,3.25 -2,3.25 ; -2,4.75 -3,4.75 -3,5.25 -2,5.25 ; -2,6.75 -3,6.75 -3,7.25 -2,7.25 ; -2,8.75 -3,8.75 -3,9.25 -2,9.25 ; -2,10.75 -3,10.75 -3,11.25 -2,11.25 ; -2,12.75 -3,12.75 -3,13.25 -2,13.25 ; -2,14.75 -3,14.75 -3,15.25 -2,15.25 ; -2,16.75 -3,16.75 -3,17.25 -2,17.25 ; 2,-17.25 3,-17.25 3,-16.75 2,-16.75 ; 2,-15.25 3,-15.25 3,-14.75 2,-14.75 ; 2,-13.25 3,-13.25 3,-12.75 2,-12.75 ; 2,-11.25 3,-11.25 3,-10.75 2,-10.75 ; 2,-9.25 3,-9.25 3,-8.75 2,-8.75 ; 2,-7.25 3,-7.25 3,-6.75 2,-6.75 ; 2,-5.25 3,-5.25 3,-4.75 2,-4.75 ; 2,-3.25 3,-3.25 3,-2.75 2,-2.75 ; 2,-1.25 3,-1.25 3,-0.75 2,-0.75 ; 2,0.75 3,0.75 3,1.25 2,1.25 ; 2,2.75 3,2.75 3,3.25 2,3.25 ; 2,4.75 3,4.75 3,5.25 2,5.25 ; 2,6.75 3,6.75 3,7.25 2,7.25 ; 2,8.75 3,8.75 3,9.25 2,9.25 ; 2,10.75 3,10.75 3,11.25 2,11.25 ; 2,12.75 3,12.75 3,13.25 2,13.25 ; 2,14.75 3,14.75 3,15.25 2,15.25 ; 2,16.75 3,16.75 3,17.25 2,17.25 ; -2,-18 2,-18 2,17 1,18 -2,18 -2,-18
  text "'.Designator'" at 0.84,-4.047 h1
Top Courtyard:
  lines w0.254: -5,-18.5 5,-18.5 5,18.5 -5,18.5 -5,-18.5
Top Designator:
  text ".Designator" at -7.618,-0.508 h1.52

## PinSocket_2x19_P2.00mm_Horizontal [mm]
pads (38):
  rect 1.35x1.35 hole 0.8: 1(0,0)
  round 1.35 hole 0.8: 2(-2,0) 3(0,-2) 4(-2,-2) 5(0,-4) 6(-2,-4) 7(0,-6) 8(-2,-6) 9(0,-8) 10(-2,-8) 11(0,-10) 12(-2,-10) 13(0,-12) 14(-2,-12) 15(0,-14) 16(-2,-14) 17(0,-16) 18(-2,-16) 19(0,-18) 20(-2,-18) 21(0,-20) 22(-2,-20) 23(0,-22) 24(-2,-22) 25(0,-24) 26(-2,-24) 27(0,-26) 28(-2,-26) 29(0,-28) 30(-2,-28) 31(0,-30) 32(-2,-30) 33(0,-32) 34(-2,-32) 35(0,-34) 36(-2,-34) 37(0,-36) 38(-2,-36)
F.SilkS:
  lines w0.254: -9.68,-35 -3.21,-35 ; -9.68,-33 -3.21,-33 ; -9.68,-31 -3.21,-31 ; -9.68,-29 -3.21,-29 ; -9.68,-27 -3.21,-27 ; -9.68,-25 -3.21,-25 ; -9.68,-23 -3.21,-23 ; -9.68,-21 -3.21,-21 ; -9.68,-19 -3.21,-19 ; -9.68,-17 -3.21,-17 ; -9.68,-15 -3.21,-15 ; -9.68,-13 -3.21,-13 ; -9.68,-11 -3.21,-11 ; -9.68,-9 -3.21,-9 ; -9.68,-7 -3.21,-7 ; -9.68,-5 -3.21,-5 ; -9.68,-3 -3.21,-3 ; -9.68,-1 -3.21,-1 ; -9.68,-0.886 -3.21,-0.886 ; -9.68,-0.772 -3.21,-0.772 ; -9.68,-0.658 -3.21,-0.658 ; -9.68,-0.544 -3.21,-0.544 ; -9.68,-0.429 -3.21,-0.429 ; -9.68,-0.315 -3.21,-0.315 ; -9.68,-0.201 -3.21,-0.201 ; -9.68,-0.087 -3.21,-0.087 ; -9.68,0.027 -3.21,0.027 ; -9.68,0.141 -3.21,0.141 ; -9.68,0.255 -3.21,0.255 ; -9.68,0.369 -3.21,0.369 ; -9.68,0.484 -3.21,0.484 ; -9.68,0.598 -3.21,0.598 ; -9.68,0.712 -3.21,0.712 ; -9.68,0.826 -3.21,0.826 ; -9.68,0.94 -3.21,0.94 ; -3.21,-36.36 -2.863,-36.36 ; -3.21,-35.64 -2.863,-35.64 ; -3.21,-34.36 -2.863,-34.36 ; -3.21,-33.64 -2.863,-33.64 ; -3.21,-32.36 -2.863,-32.36 ; -3.21,-31.64 -2.863,-31.64 ; -3.21,-30.36 -2.863,-30.36 ; -3.21,-29.64 -2.863,-29.64 ; -3.21,-28.36 -2.863,-28.36 ; -3.21,-27.64 -2.863,-27.64 ; -3.21,-26.36 -2.863,-26.36 ; -3.21,-25.64 -2.863,-25.64 ; -3.21,-24.36 -2.863,-24.36 ; -3.21,-23.64 -2.863,-23.64 ; -3.21,-22.36 -2.863,-22.36 ; -3.21,-21.64 -2.863,-21.64 ; -3.21,-20.36 -2.863,-20.36 ; -3.21,-19.64 -2.863,-19.64 ; -3.21,-18.36 -2.863,-18.36 ; -3.21,-17.64 -2.863,-17.64 ; -3.21,-16.36 -2.863,-16.36 ; -3.21,-15.64 -2.863,-15.64 ; -3.21,-14.36 -2.863,-14.36 ; -3.21,-13.64 -2.863,-13.64 ; -3.21,-12.36 -2.863,-12.36 ; -3.21,-11.64 -2.863,-11.64 ; -3.21,-10.36 -2.863,-10.36 ; -3.21,-9.64 -2.863,-9.64 ; -3.21,-8.36 -2.863,-8.36 ; -3.21,-7.64 -2.863,-7.64 ; -3.21,-6.36 -2.863,-6.36 ; -3.21,-5.64 -2.863,-5.64 ; -3.21,-4.36 -2.863,-4.36 ; -3.21,-3.64 -2.863,-3.64 ; -3.21,-2.36 -2.863,-2.36 ; -3.21,-1.64 -2.863,-1.64 ; -3.21,-0.36 -2.863,-0.36 ; -3.21,0.36 -2.863,0.36 ; -1.137,-36.36 -0.863,-36.36 ; -1.137,-35.64 -0.863,-35.64 ; -1.137,-34.36 -0.863,-34.36 ; -1.137,-33.64 -0.863,-33.64 ; -1.137,-32.36 -0.863,-32.36 ; -1.137,-31.64 -0.863,-31.64 ; -1.137,-30.36 -0.863,-30.36 ; -1.137,-29.64 -0.863,-29.64 ; -1.137,-28.36 -0.863,-28.36 ; -1.137,-27.64 -0.863,-27.64 ; -1.137,-26.36 -0.863,-26.36 ; -1.137,-25.64 -0.863,-25.64 ; -1.137,-24.36 -0.863,-24.36 ; -1.137,-23.64 -0.863,-23.64 ; -1.137,-22.36 -0.863,-22.36 ; -1.137,-21.64 -0.863,-21.64 ; -1.137,-20.36 -0.863,-20.36 ; -1.137,-19.64 -0.863,-19.64 ; -1.137,-18.36 -0.863,-18.36 ; -1.137,-17.64 -0.863,-17.64 ; -1.137,-16.36 -0.863,-16.36 ; -1.137,-15.64 -0.863,-15.64 ; -1.137,-14.36 -0.863,-14.36 ; -1.137,-13.64 -0.863,-13.64 ; -1.137,-12.36 -0.863,-12.36 ; -1.137,-11.64 -0.863,-11.64 ; -1.137,-10.36 -0.863,-10.36 ; -1.137,-9.64 -0.863,-9.64 ; -1.137,-8.36 -0.863,-8.36 ; -1.137,-7.64 -0.863,-7.64 ; -1.137,-6.36 -0.863,-6.36 ; -1.137,-5.64 -0.863,-5.64 ; -1.137,-4.36 -0.863,-4.36 ; -1.137,-3.64 -0.863,-3.64 ; -1.137,-2.36 -0.863,-2.36 ; -1.137,-1.64 -0.863,-1.64 ; -1.137,-0.36 -0.935,-0.36 ; -1.137,0.36 -0.935,0.36 ; 0,1.06 0.935,1.06 0.935,0 ; -9.68,-37.06 -3.21,-37.06 -3.21,1.06 -9.68,1.06 -9.68,-37.06
Top Assembly:
  lines w0.254: -3.27,-36.3 0,-36.3 0,-35.7 -3.27,-35.7 ; -3.27,-34.3 0,-34.3 0,-33.7 -3.27,-33.7 ; -3.27,-32.3 0,-32.3 0,-31.7 -3.27,-31.7 ; -3.27,-30.3 0,-30.3 0,-29.7 -3.27,-29.7 ; -3.27,-28.3 0,-28.3 0,-27.7 -3.27,-27.7 ; -3.27,-26.3 0,-26.3 0,-25.7 -3.27,-25.7 ; -3.27,-24.3 0,-24.3 0,-23.7 -3.27,-23.7 ; -3.27,-22.3 0,-22.3 0,-21.7 -3.27,-21.7 ; -3.27,-20.3 0,-20.3 0,-19.7 -3.27,-19.7 ; -3.27,-18.3 0,-18.3 0,-17.7 -3.27,-17.7 ; -3.27,-16.3 0,-16.3 0,-15.7 -3.27,-15.7 ; -3.27,-14.3 0,-14.3 0,-13.7 -3.27,-13.7 ; -3.27,-12.3 0,-12.3 0,-11.7 -3.27,-11.7 ; -3.27,-10.3 0,-10.3 0,-9.7 -3.27,-9.7 ; -3.27,-8.3 0,-8.3 0,-7.7 -3.27,-7.7 ; -3.27,-6.3 0,-6.3 0,-5.7 -3.27,-5.7 ; -3.27,-4.3 0,-4.3 0,-3.7 -3.27,-3.7 ; -3.27,-2.3 0,-2.3 0,-1.7 -3.27,-1.7 ; -3.27,-0.3 0,-0.3 0,0.3 -3.27,0.3 ; -3.27,0.3 -3.27,-37 -9.62,-37 -9.62,1 -3.97,1 -3.27,0.3
  text "'.Designator'" at -5.605,-22.047 h1
Top Courtyard:
  lines w0.254: -10.15,-37.5 1.5,-37.5 1.5,1.5 -10.15,1.5 -10.15,-37.5
Top Designator:
  text ".Designator" at -11.943,-18.508 h1.52

## PinSocket_2x19_P2.00mm_Vertical [mm]
pads (38):
  rect 1.35x1.35 hole 0.8: 1(0,0)
  round 1.35 hole 0.8: 2(-2,0) 3(0,-2) 4(-2,-2) 5(0,-4) 6(-2,-4) 7(0,-6) 8(-2,-6) 9(0,-8) 10(-2,-8) 11(0,-10) 12(-2,-10) 13(0,-12) 14(-2,-12) 15(0,-14) 16(-2,-14) 17(0,-16) 18(-2,-16) 19(0,-18) 20(-2,-18) 21(0,-20) 22(-2,-20) 23(0,-22) 24(-2,-22) 25(0,-24) 26(-2,-24) 27(0,-26) 28(-2,-26) 29(0,-28) 30(-2,-28) 31(0,-30) 32(-2,-30) 33(0,-32) 34(-2,-32) 35(0,-34) 36(-2,-34) 37(0,-36) 38(-2,-36)
F.SilkS:
  lines w0.254: 0,1.06 1.06,1.06 1.06,0 ; -3.06,-37.06 1.06,-37.06 1.06,-1 -1,-1 -1,1.06 -3.06,1.06 -3.06,-37.06
Top Assembly:
  lines w0.254: -3,-37 1,-37 1,0 0,1 -3,1 -3,-37
  text "'.Designator'" at -0.16,-22.047 h1
Top Courtyard:
  lines w0.254: -3.5,-37.5 1.5,-37.5 1.5,1.5 -3.5,1.5 -3.5,-37.5
Top Designator:
  text ".Designator" at -8.618,-18.508 h1.52

## PinSocket_2x19_P2.00mm_Vertical_SMD [mm]
pads (38):
  rect 2.75x1 smd: 1(3.125,18) 2(-3.125,18) 3(3.125,16) 4(-3.125,16) 5(3.125,14) 6(-3.125,14) 7(3.125,12) 8(-3.125,12) 9(3.125,10) 10(-3.125,10) 11(3.125,8) 12(-3.125,8) 13(3.125,6) 14(-3.125,6) 15(3.125,4) 16(-3.125,4) 17(3.125,2) 18(-3.125,2) 19(3.125,0) 20(-3.125,0) 21(3.125,-2) 22(-3.125,-2) 23(3.125,-4) 24(-3.125,-4) 25(3.125,-6) 26(-3.125,-6) 27(3.125,-8) 28(-3.125,-8) 29(3.125,-10) 30(-3.125,-10) 31(3.125,-12) 32(-3.125,-12) 33(3.125,-14) 34(-3.125,-14) 35(3.125,-16) 36(-3.125,-16) 37(3.125,-18) 38(-3.125,-18)
F.SilkS:
  lines w0.254: -2.06,-18.76 -2.06,-19.06 2.06,-19.06 2.06,-18.76 ; -2.06,-17.24 -2.06,-16.76 ; -2.06,-15.24 -2.06,-14.76 ; -2.06,-13.24 -2.06,-12.76 ; -2.06,-11.24 -2.06,-10.76 ; -2.06,-9.24 -2.06,-8.76 ; -2.06,-7.24 -2.06,-6.76 ; -2.06,-5.24 -2.06,-4.76 ; -2.06,-3.24 -2.06,-2.76 ; -2.06,-1.24 -2.06,-0.76 ; -2.06,0.76 -2.06,1.24 ; -2.06,2.76 -2.06,3.24 ; -2.06,4.76 -2.06,5.24 ; -2.06,6.76 -2.06,7.24 ; -2.06,8.76 -2.06,9.24 ; -2.06,10.76 -2.06,11.24 ; -2.06,12.76 -2.06,13.24 ; -2.06,14.76 -2.06,15.24 ; -2.06,16.76 -2.06,17.24 ; -2.06,18.76 -2.06,19.06 2.06,19.06 2.06,18.76 4.44,18.76 ; 2.06,-17.24 2.06,-16.76 ; 2.06,-15.24 2.06,-14.76 ; 2.06,-13.24 2.06,-12.76 ; 2.06,-11.24 2.06,-10.76 ; 2.06,-9.24 2.06,-8.76 ; 2.06,-7.24 2.06,-6.76 ; 2.06,-5.24 2.06,-4.76 ; 2.06,-3.24 2.06,-2.76 ; 2.06,-1.24 2.06,-0.76 ; 2.06,0.76 2.06,1.24 ; 2.06,2.76 2.06,3.24 ; 2.06,4.76 2.06,5.24 ; 2.06,6.76 2.06,7.24 ; 2.06,8.76 2.06,9.24 ; 2.06,10.76 2.06,11.24 ; 2.06,12.76 2.06,13.24 ; 2.06,14.76 2.06,15.24 ; 2.06,16.76 2.06,17.24
Top Assembly:
  lines w0.254: -2,-18.25 -3,-18.25 -3,-17.75 -2,-17.75 ; -2,-16.25 -3,-16.25 -3,-15.75 -2,-15.75 ; -2,-14.25 -3,-14.25 -3,-13.75 -2,-13.75 ; -2,-12.25 -3,-12.25 -3,-11.75 -2,-11.75 ; -2,-10.25 -3,-10.25 -3,-9.75 -2,-9.75 ; -2,-8.25 -3,-8.25 -3,-7.75 -2,-7.75 ; -2,-6.25 -3,-6.25 -3,-5.75 -2,-5.75 ; -2,-4.25 -3,-4.25 -3,-3.75 -2,-3.75 ; -2,-2.25 -3,-2.25 -3,-1.75 -2,-1.75 ; -2,-0.25 -3,-0.25 -3,0.25 -2,0.25 ; -2,1.75 -3,1.75 -3,2.25 -2,2.25 ; -2,3.75 -3,3.75 -3,4.25 -2,4.25 ; -2,5.75 -3,5.75 -3,6.25 -2,6.25 ; -2,7.75 -3,7.75 -3,8.25 -2,8.25 ; -2,9.75 -3,9.75 -3,10.25 -2,10.25 ; -2,11.75 -3,11.75 -3,12.25 -2,12.25 ; -2,13.75 -3,13.75 -3,14.25 -2,14.25 ; -2,15.75 -3,15.75 -3,16.25 -2,16.25 ; -2,17.75 -3,17.75 -3,18.25 -2,18.25 ; 2,-18.25 3,-18.25 3,-17.75 2,-17.75 ; 2,-16.25 3,-16.25 3,-15.75 2,-15.75 ; 2,-14.25 3,-14.25 3,-13.75 2,-13.75 ; 2,-12.25 3,-12.25 3,-11.75 2,-11.75 ; 2,-10.25 3,-10.25 3,-9.75 2,-9.75 ; 2,-8.25 3,-8.25 3,-7.75 2,-7.75 ; 2,-6.25 3,-6.25 3,-5.75 2,-5.75 ; 2,-4.25 3,-4.25 3,-3.75 2,-3.75 ; 2,-2.25 3,-2.25 3,-1.75 2,-1.75 ; 2,-0.25 3,-0.25 3,0.25 2,0.25 ; 2,1.75 3,1.75 3,2.25 2,2.25 ; 2,3.75 3,3.75 3,4.25 2,4.25 ; 2,5.75 3,5.75 3,6.25 2,6.25 ; 2,7.75 3,7.75 3,8.25 2,8.25 ; 2,9.75 3,9.75 3,10.25 2,10.25 ; 2,11.75 3,11.75 3,12.25 2,12.25 ; 2,13.75 3,13.75 3,14.25 2,14.25 ; 2,15.75 3,15.75 3,16.25 2,16.25 ; 2,17.75 3,17.75 3,18.25 2,18.25 ; -2,-19 2,-19 2,18 1,19 -2,19 -2,-19
  text "'.Designator'" at 0.84,-4.047 h1
Top Courtyard:
  lines w0.254: -5,-19.5 5,-19.5 5,19.5 -5,19.5 -5,-19.5
Top Designator:
  text ".Designator" at -7.618,-0.508 h1.52

## PinSocket_2x20_P2.00mm_Horizontal [mm]
pads (40):
  rect 1.35x1.35 hole 0.8: 1(0,0)
  round 1.35 hole 0.8: 2(-2,0) 3(0,-2) 4(-2,-2) 5(0,-4) 6(-2,-4) 7(0,-6) 8(-2,-6) 9(0,-8) 10(-2,-8) 11(0,-10) 12(-2,-10) 13(0,-12) 14(-2,-12) 15(0,-14) 16(-2,-14) 17(0,-16) 18(-2,-16) 19(0,-18) 20(-2,-18) 21(0,-20) 22(-2,-20) 23(0,-22) 24(-2,-22) 25(0,-24) 26(-2,-24) 27(0,-26) 28(-2,-26) 29(0,-28) 30(-2,-28) 31(0,-30) 32(-2,-30) 33(0,-32) 34(-2,-32) 35(0,-34) 36(-2,-34) 37(0,-36) 38(-2,-36) 39(0,-38) 40(-2,-38)
F.SilkS:
  lines w0.254: -9.68,-37 -3.21,-37 ; -9.68,-35 -3.21,-35 ; -9.68,-33 -3.21,-33 ; -9.68,-31 -3.21,-31 ; -9.68,-29 -3.21,-29 ; -9.68,-27 -3.21,-27 ; -9.68,-25 -3.21,-25 ; -9.68,-23 -3.21,-23 ; -9.68,-21 -3.21,-21 ; -9.68,-19 -3.21,-19 ; -9.68,-17 -3.21,-17 ; -9.68,-15 -3.21,-15 ; -9.68,-13 -3.21,-13 ; -9.68,-11 -3.21,-11 ; -9.68,-9 -3.21,-9 ; -9.68,-7 -3.21,-7 ; -9.68,-5 -3.21,-5 ; -9.68,-3 -3.21,-3 ; -9.68,-1 -3.21,-1 ; -9.68,-0.886 -3.21,-0.886 ; -9.68,-0.772 -3.21,-0.772 ; -9.68,-0.658 -3.21,-0.658 ; -9.68,-0.544 -3.21,-0.544 ; -9.68,-0.429 -3.21,-0.429 ; -9.68,-0.315 -3.21,-0.315 ; -9.68,-0.201 -3.21,-0.201 ; -9.68,-0.087 -3.21,-0.087 ; -9.68,0.027 -3.21,0.027 ; -9.68,0.141 -3.21,0.141 ; -9.68,0.255 -3.21,0.255 ; -9.68,0.369 -3.21,0.369 ; -9.68,0.484 -3.21,0.484 ; -9.68,0.598 -3.21,0.598 ; -9.68,0.712 -3.21,0.712 ; -9.68,0.826 -3.21,0.826 ; -9.68,0.94 -3.21,0.94 ; -3.21,-38.36 -2.863,-38.36 ; -3.21,-37.64 -2.863,-37.64 ; -3.21,-36.36 -2.863,-36.36 ; -3.21,-35.64 -2.863,-35.64 ; -3.21,-34.36 -2.863,-34.36 ; -3.21,-33.64 -2.863,-33.64 ; -3.21,-32.36 -2.863,-32.36 ; -3.21,-31.64 -2.863,-31.64 ; -3.21,-30.36 -2.863,-30.36 ; -3.21,-29.64 -2.863,-29.64 ; -3.21,-28.36 -2.863,-28.36 ; -3.21,-27.64 -2.863,-27.64 ; -3.21,-26.36 -2.863,-26.36 ; -3.21,-25.64 -2.863,-25.64 ; -3.21,-24.36 -2.863,-24.36 ; -3.21,-23.64 -2.863,-23.64 ; -3.21,-22.36 -2.863,-22.36 ; -3.21,-21.64 -2.863,-21.64 ; -3.21,-20.36 -2.863,-20.36 ; -3.21,-19.64 -2.863,-19.64 ; -3.21,-18.36 -2.863,-18.36 ; -3.21,-17.64 -2.863,-17.64 ; -3.21,-16.36 -2.863,-16.36 ; -3.21,-15.64 -2.863,-15.64 ; -3.21,-14.36 -2.863,-14.36 ; -3.21,-13.64 -2.863,-13.64 ; -3.21,-12.36 -2.863,-12.36 ; -3.21,-11.64 -2.863,-11.64 ; -3.21,-10.36 -2.863,-10.36 ; -3.21,-9.64 -2.863,-9.64 ; -3.21,-8.36 -2.863,-8.36 ; -3.21,-7.64 -2.863,-7.64 ; -3.21,-6.36 -2.863,-6.36 ; -3.21,-5.64 -2.863,-5.64 ; -3.21,-4.36 -2.863,-4.36 ; -3.21,-3.64 -2.863,-3.64 ; -3.21,-2.36 -2.863,-2.36 ; -3.21,-1.64 -2.863,-1.64 ; -3.21,-0.36 -2.863,-0.36 ; -3.21,0.36 -2.863,0.36 ; -1.137,-38.36 -0.863,-38.36 ; -1.137,-37.64 -0.863,-37.64 ; -1.137,-36.36 -0.863,-36.36 ; -1.137,-35.64 -0.863,-35.64 ; -1.137,-34.36 -0.863,-34.36 ; -1.137,-33.64 -0.863,-33.64 ; -1.137,-32.36 -0.863,-32.36 ; -1.137,-31.64 -0.863,-31.64 ; -1.137,-30.36 -0.863,-30.36 ; -1.137,-29.64 -0.863,-29.64 ; -1.137,-28.36 -0.863,-28.36 ; -1.137,-27.64 -0.863,-27.64 ; -1.137,-26.36 -0.863,-26.36 ; -1.137,-25.64 -0.863,-25.64 ; -1.137,-24.36 -0.863,-24.36 ; -1.137,-23.64 -0.863,-23.64 ; -1.137,-22.36 -0.863,-22.36 ; -1.137,-21.64 -0.863,-21.64 ; -1.137,-20.36 -0.863,-20.36 ; -1.137,-19.64 -0.863,-19.64 ; -1.137,-18.36 -0.863,-18.36 ; -1.137,-17.64 -0.863,-17.64 ; -1.137,-16.36 -0.863,-16.36 ; -1.137,-15.64 -0.863,-15.64 ; -1.137,-14.36 -0.863,-14.36 ; -1.137,-13.64 -0.863,-13.64 ; -1.137,-12.36 -0.863,-12.36 ; -1.137,-11.64 -0.863,-11.64 ; -1.137,-10.36 -0.863,-10.36 ; -1.137,-9.64 -0.863,-9.64 ; -1.137,-8.36 -0.863,-8.36 ; -1.137,-7.64 -0.863,-7.64 ; -1.137,-6.36 -0.863,-6.36 ; -1.137,-5.64 -0.863,-5.64 ; -1.137,-4.36 -0.863,-4.36 ; -1.137,-3.64 -0.863,-3.64 ; -1.137,-2.36 -0.863,-2.36 ; -1.137,-1.64 -0.863,-1.64 ; -1.137,-0.36 -0.935,-0.36 ; -1.137,0.36 -0.935,0.36 ; 0,1.06 0.935,1.06 0.935,0 ; -9.68,-39.06 -3.21,-39.06 -3.21,1.06 -9.68,1.06 -9.68,-39.06
Top Assembly:
  lines w0.254: -3.27,-38.3 0,-38.3 0,-37.7 -3.27,-37.7 ; -3.27,-36.3 0,-36.3 0,-35.7 -3.27,-35.7 ; -3.27,-34.3 0,-34.3 0,-33.7 -3.27,-33.7 ; -3.27,-32.3 0,-32.3 0,-31.7 -3.27,-31.7 ; -3.27,-30.3 0,-30.3 0,-29.7 -3.27,-29.7 ; -3.27,-28.3 0,-28.3 0,-27.7 -3.27,-27.7 ; -3.27,-26.3 0,-26.3 0,-25.7 -3.27,-25.7 ; -3.27,-24.3 0,-24.3 0,-23.7 -3.27,-23.7 ; -3.27,-22.3 0,-22.3 0,-21.7 -3.27,-21.7 ; -3.27,-20.3 0,-20.3 0,-19.7 -3.27,-19.7 ; -3.27,-18.3 0,-18.3 0,-17.7 -3.27,-17.7 ; -3.27,-16.3 0,-16.3 0,-15.7 -3.27,-15.7 ; -3.27,-14.3 0,-14.3 0,-13.7 -3.27,-13.7 ; -3.27,-12.3 0,-12.3 0,-11.7 -3.27,-11.7 ; -3.27,-10.3 0,-10.3 0,-9.7 -3.27,-9.7 ; -3.27,-8.3 0,-8.3 0,-7.7 -3.27,-7.7 ; -3.27,-6.3 0,-6.3 0,-5.7 -3.27,-5.7 ; -3.27,-4.3 0,-4.3 0,-3.7 -3.27,-3.7 ; -3.27,-2.3 0,-2.3 0,-1.7 -3.27,-1.7 ; -3.27,-0.3 0,-0.3 0,0.3 -3.27,0.3 ; -3.27,0.3 -3.27,-39 -9.62,-39 -9.62,1 -3.97,1 -3.27,0.3
  text "'.Designator'" at -5.605,-23.047 h1
Top Courtyard:
  lines w0.254: -10.15,-39.5 1.5,-39.5 1.5,1.5 -10.15,1.5 -10.15,-39.5
Top Designator:
  text ".Designator" at -11.943,-19.508 h1.52

## PinSocket_2x20_P2.00mm_Vertical [mm]
pads (40):
  rect 1.35x1.35 hole 0.8: 1(0,0)
  round 1.35 hole 0.8: 2(-2,0) 3(0,-2) 4(-2,-2) 5(0,-4) 6(-2,-4) 7(0,-6) 8(-2,-6) 9(0,-8) 10(-2,-8) 11(0,-10) 12(-2,-10) 13(0,-12) 14(-2,-12) 15(0,-14) 16(-2,-14) 17(0,-16) 18(-2,-16) 19(0,-18) 20(-2,-18) 21(0,-20) 22(-2,-20) 23(0,-22) 24(-2,-22) 25(0,-24) 26(-2,-24) 27(0,-26) 28(-2,-26) 29(0,-28) 30(-2,-28) 31(0,-30) 32(-2,-30) 33(0,-32) 34(-2,-32) 35(0,-34) 36(-2,-34) 37(0,-36) 38(-2,-36) 39(0,-38) 40(-2,-38)
F.SilkS:
  lines w0.254: 0,1.06 1.06,1.06 1.06,0 ; -3.06,-39.06 1.06,-39.06 1.06,-1 -1,-1 -1,1.06 -3.06,1.06 -3.06,-39.06
Top Assembly:
  lines w0.254: -3,-39 1,-39 1,0 0,1 -3,1 -3,-39
  text "'.Designator'" at -0.16,-23.047 h1
Top Courtyard:
  lines w0.254: -3.5,-39.5 1.5,-39.5 1.5,1.5 -3.5,1.5 -3.5,-39.5
Top Designator:
  text ".Designator" at -8.618,-19.508 h1.52

## PinSocket_2x20_P2.00mm_Vertical_SMD [mm]
pads (40):
  rect 2.75x1 smd: 1(3.125,19) 2(-3.125,19) 3(3.125,17) 4(-3.125,17) 5(3.125,15) 6(-3.125,15) 7(3.125,13) 8(-3.125,13) 9(3.125,11) 10(-3.125,11) 11(3.125,9) 12(-3.125,9) 13(3.125,7) 14(-3.125,7) 15(3.125,5) 16(-3.125,5) 17(3.125,3) 18(-3.125,3) 19(3.125,1) 20(-3.125,1) 21(3.125,-1) 22(-3.125,-1) 23(3.125,-3) 24(-3.125,-3) 25(3.125,-5) 26(-3.125,-5) 27(3.125,-7) 28(-3.125,-7) 29(3.125,-9) 30(-3.125,-9) 31(3.125,-11) 32(-3.125,-11) 33(3.125,-13) 34(-3.125,-13) 35(3.125,-15) 36(-3.125,-15) 37(3.125,-17) 38(-3.125,-17) 39(3.125,-19) 40(-3.125,-19)
F.SilkS:
  lines w0.254: -2.06,-19.76 -2.06,-20.06 2.06,-20.06 2.06,-19.76 ; -2.06,-18.24 -2.06,-17.76 ; -2.06,-16.24 -2.06,-15.76 ; -2.06,-14.24 -2.06,-13.76 ; -2.06,-12.24 -2.06,-11.76 ; -2.06,-10.24 -2.06,-9.76 ; -2.06,-8.24 -2.06,-7.76 ; -2.06,-6.24 -2.06,-5.76 ; -2.06,-4.24 -2.06,-3.76 ; -2.06,-2.24 -2.06,-1.76 ; -2.06,-0.24 -2.06,0.24 ; -2.06,1.76 -2.06,2.24 ; -2.06,3.76 -2.06,4.24 ; -2.06,5.76 -2.06,6.24 ; -2.06,7.76 -2.06,8.24 ; -2.06,9.76 -2.06,10.24 ; -2.06,11.76 -2.06,12.24 ; -2.06,13.76 -2.06,14.24 ; -2.06,15.76 -2.06,16.24 ; -2.06,17.76 -2.06,18.24 ; -2.06,19.76 -2.06,20.06 2.06,20.06 2.06,19.76 4.44,19.76 ; 2.06,-18.24 2.06,-17.76 ; 2.06,-16.24 2.06,-15.76 ; 2.06,-14.24 2.06,-13.76 ; 2.06,-12.24 2.06,-11.76 ; 2.06,-10.24 2.06,-9.76 ; 2.06,-8.24 2.06,-7.76 ; 2.06,-6.24 2.06,-5.76 ; 2.06,-4.24 2.06,-3.76 ; 2.06,-2.24 2.06,-1.76 ; 2.06,-0.24 2.06,0.24 ; 2.06,1.76 2.06,2.24 ; 2.06,3.76 2.06,4.24 ; 2.06,5.76 2.06,6.24 ; 2.06,7.76 2.06,8.24 ; 2.06,9.76 2.06,10.24 ; 2.06,11.76 2.06,12.24 ; 2.06,13.76 2.06,14.24 ; 2.06,15.76 2.06,16.24 ; 2.06,17.76 2.06,18.24
Top Assembly:
  lines w0.254: -2,-19.25 -3,-19.25 -3,-18.75 -2,-18.75 ; -2,-17.25 -3,-17.25 -3,-16.75 -2,-16.75 ; -2,-15.25 -3,-15.25 -3,-14.75 -2,-14.75 ; -2,-13.25 -3,-13.25 -3,-12.75 -2,-12.75 ; -2,-11.25 -3,-11.25 -3,-10.75 -2,-10.75 ; -2,-9.25 -3,-9.25 -3,-8.75 -2,-8.75 ; -2,-7.25 -3,-7.25 -3,-6.75 -2,-6.75 ; -2,-5.25 -3,-5.25 -3,-4.75 -2,-4.75 ; -2,-3.25 -3,-3.25 -3,-2.75 -2,-2.75 ; -2,-1.25 -3,-1.25 -3,-0.75 -2,-0.75 ; -2,0.75 -3,0.75 -3,1.25 -2,1.25 ; -2,2.75 -3,2.75 -3,3.25 -2,3.25 ; -2,4.75 -3,4.75 -3,5.25 -2,5.25 ; -2,6.75 -3,6.75 -3,7.25 -2,7.25 ; -2,8.75 -3,8.75 -3,9.25 -2,9.25 ; -2,10.75 -3,10.75 -3,11.25 -2,11.25 ; -2,12.75 -3,12.75 -3,13.25 -2,13.25 ; -2,14.75 -3,14.75 -3,15.25 -2,15.25 ; -2,16.75 -3,16.75 -3,17.25 -2,17.25 ; -2,18.75 -3,18.75 -3,19.25 -2,19.25 ; 2,-19.25 3,-19.25 3,-18.75 2,-18.75 ; 2,-17.25 3,-17.25 3,-16.75 2,-16.75 ; 2,-15.25 3,-15.25 3,-14.75 2,-14.75 ; 2,-13.25 3,-13.25 3,-12.75 2,-12.75 ; 2,-11.25 3,-11.25 3,-10.75 2,-10.75 ; 2,-9.25 3,-9.25 3,-8.75 2,-8.75 ; 2,-7.25 3,-7.25 3,-6.75 2,-6.75 ; 2,-5.25 3,-5.25 3,-4.75 2,-4.75 ; 2,-3.25 3,-3.25 3,-2.75 2,-2.75 ; 2,-1.25 3,-1.25 3,-0.75 2,-0.75 ; 2,0.75 3,0.75 3,1.25 2,1.25 ; 2,2.75 3,2.75 3,3.25 2,3.25 ; 2,4.75 3,4.75 3,5.25 2,5.25 ; 2,6.75 3,6.75 3,7.25 2,7.25 ; 2,8.75 3,8.75 3,9.25 2,9.25 ; 2,10.75 3,10.75 3,11.25 2,11.25 ; 2,12.75 3,12.75 3,13.25 2,13.25 ; 2,14.75 3,14.75 3,15.25 2,15.25 ; 2,16.75 3,16.75 3,17.25 2,17.25 ; 2,18.75 3,18.75 3,19.25 2,19.25 ; -2,-20 2,-20 2,19 1,20 -2,20 -2,-20
  text "'.Designator'" at 0.84,-4.047 h1
Top Courtyard:
  lines w0.254: -5,-20.5 5,-20.5 5,20.5 -5,20.5 -5,-20.5
Top Designator:
  text ".Designator" at -7.618,-0.508 h1.52

## PinSocket_2x21_P2.00mm_Horizontal [mm]
pads (42):
  rect 1.35x1.35 hole 0.8: 1(0,0)
  round 1.35 hole 0.8: 2(-2,0) 3(0,-2) 4(-2,-2) 5(0,-4) 6(-2,-4) 7(0,-6) 8(-2,-6) 9(0,-8) 10(-2,-8) 11(0,-10) 12(-2,-10) 13(0,-12) 14(-2,-12) 15(0,-14) 16(-2,-14) 17(0,-16) 18(-2,-16) 19(0,-18) 20(-2,-18) 21(0,-20) 22(-2,-20) 23(0,-22) 24(-2,-22) 25(0,-24) 26(-2,-24) 27(0,-26) 28(-2,-26) 29(0,-28) 30(-2,-28) 31(0,-30) 32(-2,-30) 33(0,-32) 34(-2,-32) 35(0,-34) 36(-2,-34) 37(0,-36) 38(-2,-36) 39(0,-38) 40(-2,-38) 41(0,-40) 42(-2,-40)
F.SilkS:
  lines w0.254: -9.68,-39 -3.21,-39 ; -9.68,-37 -3.21,-37 ; -9.68,-35 -3.21,-35 ; -9.68,-33 -3.21,-33 ; -9.68,-31 -3.21,-31 ; -9.68,-29 -3.21,-29 ; -9.68,-27 -3.21,-27 ; -9.68,-25 -3.21,-25 ; -9.68,-23 -3.21,-23 ; -9.68,-21 -3.21,-21 ; -9.68,-19 -3.21,-19 ; -9.68,-17 -3.21,-17 ; -9.68,-15 -3.21,-15 ; -9.68,-13 -3.21,-13 ; -9.68,-11 -3.21,-11 ; -9.68,-9 -3.21,-9 ; -9.68,-7 -3.21,-7 ; -9.68,-5 -3.21,-5 ; -9.68,-3 -3.21,-3 ; -9.68,-1 -3.21,-1 ; -9.68,-0.886 -3.21,-0.886 ; -9.68,-0.772 -3.21,-0.772 ; -9.68,-0.658 -3.21,-0.658 ; -9.68,-0.544 -3.21,-0.544 ; -9.68,-0.429 -3.21,-0.429 ; -9.68,-0.315 -3.21,-0.315 ; -9.68,-0.201 -3.21,-0.201 ; -9.68,-0.087 -3.21,-0.087 ; -9.68,0.027 -3.21,0.027 ; -9.68,0.141 -3.21,0.141 ; -9.68,0.255 -3.21,0.255 ; -9.68,0.369 -3.21,0.369 ; -9.68,0.484 -3.21,0.484 ; -9.68,0.598 -3.21,0.598 ; -9.68,0.712 -3.21,0.712 ; -9.68,0.826 -3.21,0.826 ; -9.68,0.94 -3.21,0.94 ; -3.21,-40.36 -2.863,-40.36 ; -3.21,-39.64 -2.863,-39.64 ; -3.21,-38.36 -2.863,-38.36 ; -3.21,-37.64 -2.863,-37.64 ; -3.21,-36.36 -2.863,-36.36 ; -3.21,-35.64 -2.863,-35.64 ; -3.21,-34.36 -2.863,-34.36 ; -3.21,-33.64 -2.863,-33.64 ; -3.21,-32.36 -2.863,-32.36 ; -3.21,-31.64 -2.863,-31.64 ; -3.21,-30.36 -2.863,-30.36 ; -3.21,-29.64 -2.863,-29.64 ; -3.21,-28.36 -2.863,-28.36 ; -3.21,-27.64 -2.863,-27.64 ; -3.21,-26.36 -2.863,-26.36 ; -3.21,-25.64 -2.863,-25.64 ; -3.21,-24.36 -2.863,-24.36 ; -3.21,-23.64 -2.863,-23.64 ; -3.21,-22.36 -2.863,-22.36 ; -3.21,-21.64 -2.863,-21.64 ; -3.21,-20.36 -2.863,-20.36 ; -3.21,-19.64 -2.863,-19.64 ; -3.21,-18.36 -2.863,-18.36 ; -3.21,-17.64 -2.863,-17.64 ; -3.21,-16.36 -2.863,-16.36 ; -3.21,-15.64 -2.863,-15.64 ; -3.21,-14.36 -2.863,-14.36 ; -3.21,-13.64 -2.863,-13.64 ; -3.21,-12.36 -2.863,-12.36 ; -3.21,-11.64 -2.863,-11.64 ; -3.21,-10.36 -2.863,-10.36 ; -3.21,-9.64 -2.863,-9.64 ; -3.21,-8.36 -2.863,-8.36 ; -3.21,-7.64 -2.863,-7.64 ; -3.21,-6.36 -2.863,-6.36 ; -3.21,-5.64 -2.863,-5.64 ; -3.21,-4.36 -2.863,-4.36 ; -3.21,-3.64 -2.863,-3.64 ; -3.21,-2.36 -2.863,-2.36 ; -3.21,-1.64 -2.863,-1.64 ; -3.21,-0.36 -2.863,-0.36 ; -3.21,0.36 -2.863,0.36 ; -1.137,-40.36 -0.863,-40.36 ; -1.137,-39.64 -0.863,-39.64 ; -1.137,-38.36 -0.863,-38.36 ; -1.137,-37.64 -0.863,-37.64 ; -1.137,-36.36 -0.863,-36.36 ; -1.137,-35.64 -0.863,-35.64 ; -1.137,-34.36 -0.863,-34.36 ; -1.137,-33.64 -0.863,-33.64 ; -1.137,-32.36 -0.863,-32.36 ; -1.137,-31.64 -0.863,-31.64 ; -1.137,-30.36 -0.863,-30.36 ; -1.137,-29.64 -0.863,-29.64 ; -1.137,-28.36 -0.863,-28.36 ; -1.137,-27.64 -0.863,-27.64 ; -1.137,-26.36 -0.863,-26.36 ; -1.137,-25.64 -0.863,-25.64 ; -1.137,-24.36 -0.863,-24.36 ; -1.137,-23.64 -0.863,-23.64 ; -1.137,-22.36 -0.863,-22.36 ; -1.137,-21.64 -0.863,-21.64 ; -1.137,-20.36 -0.863,-20.36 ; -1.137,-19.64 -0.863,-19.64 ; -1.137,-18.36 -0.863,-18.36 ; -1.137,-17.64 -0.863,-17.64 ; -1.137,-16.36 -0.863,-16.36 ; -1.137,-15.64 -0.863,-15.64 ; -1.137,-14.36 -0.863,-14.36 ; -1.137,-13.64 -0.863,-13.64 ; -1.137,-12.36 -0.863,-12.36 ; -1.137,-11.64 -0.863,-11.64 ; -1.137,-10.36 -0.863,-10.36 ; -1.137,-9.64 -0.863,-9.64 ; -1.137,-8.36 -0.863,-8.36 ; -1.137,-7.64 -0.863,-7.64 ; -1.137,-6.36 -0.863,-6.36 ; -1.137,-5.64 -0.863,-5.64 ; -1.137,-4.36 -0.863,-4.36 ; -1.137,-3.64 -0.863,-3.64 ; -1.137,-2.36 -0.863,-2.36 ; -1.137,-1.64 -0.863,-1.64 ; -1.137,-0.36 -0.935,-0.36 ; -1.137,0.36 -0.935,0.36 ; 0,1.06 0.935,1.06 0.935,0 ; -9.68,-41.06 -3.21,-41.06 -3.21,1.06 -9.68,1.06 -9.68,-41.06
Top Assembly:
  lines w0.254: -3.27,-40.3 0,-40.3 0,-39.7 -3.27,-39.7 ; -3.27,-38.3 0,-38.3 0,-37.7 -3.27,-37.7 ; -3.27,-36.3 0,-36.3 0,-35.7 -3.27,-35.7 ; -3.27,-34.3 0,-34.3 0,-33.7 -3.27,-33.7 ; -3.27,-32.3 0,-32.3 0,-31.7 -3.27,-31.7 ; -3.27,-30.3 0,-30.3 0,-29.7 -3.27,-29.7 ; -3.27,-28.3 0,-28.3 0,-27.7 -3.27,-27.7 ; -3.27,-26.3 0,-26.3 0,-25.7 -3.27,-25.7 ; -3.27,-24.3 0,-24.3 0,-23.7 -3.27,-23.7 ; -3.27,-22.3 0,-22.3 0,-21.7 -3.27,-21.7 ; -3.27,-20.3 0,-20.3 0,-19.7 -3.27,-19.7 ; -3.27,-18.3 0,-18.3 0,-17.7 -3.27,-17.7 ; -3.27,-16.3 0,-16.3 0,-15.7 -3.27,-15.7 ; -3.27,-14.3 0,-14.3 0,-13.7 -3.27,-13.7 ; -3.27,-12.3 0,-12.3 0,-11.7 -3.27,-11.7 ; -3.27,-10.3 0,-10.3 0,-9.7 -3.27,-9.7 ; -3.27,-8.3 0,-8.3 0,-7.7 -3.27,-7.7 ; -3.27,-6.3 0,-6.3 0,-5.7 -3.27,-5.7 ; -3.27,-4.3 0,-4.3 0,-3.7 -3.27,-3.7 ; -3.27,-2.3 0,-2.3 0,-1.7 -3.27,-1.7 ; -3.27,-0.3 0,-0.3 0,0.3 -3.27,0.3 ; -3.27,0.3 -3.27,-41 -9.62,-41 -9.62,1 -3.97,1 -3.27,0.3
  text "'.Designator'" at -5.605,-24.047 h1
Top Courtyard:
  lines w0.254: -10.15,-41.5 1.5,-41.5 1.5,1.5 -10.15,1.5 -10.15,-41.5
Top Designator:
  text ".Designator" at -11.943,-20.508 h1.52

## PinSocket_2x21_P2.00mm_Vertical [mm]
pads (42):
  rect 1.35x1.35 hole 0.8: 1(0,0)
  round 1.35 hole 0.8: 2(-2,0) 3(0,-2) 4(-2,-2) 5(0,-4) 6(-2,-4) 7(0,-6) 8(-2,-6) 9(0,-8) 10(-2,-8) 11(0,-10) 12(-2,-10) 13(0,-12) 14(-2,-12) 15(0,-14) 16(-2,-14) 17(0,-16) 18(-2,-16) 19(0,-18) 20(-2,-18) 21(0,-20) 22(-2,-20) 23(0,-22) 24(-2,-22) 25(0,-24) 26(-2,-24) 27(0,-26) 28(-2,-26) 29(0,-28) 30(-2,-28) 31(0,-30) 32(-2,-30) 33(0,-32) 34(-2,-32) 35(0,-34) 36(-2,-34) 37(0,-36) 38(-2,-36) 39(0,-38) 40(-2,-38) 41(0,-40) 42(-2,-40)
F.SilkS:
  lines w0.254: 0,1.06 1.06,1.06 1.06,0 ; -3.06,-41.06 1.06,-41.06 1.06,-1 -1,-1 -1,1.06 -3.06,1.06 -3.06,-41.06
Top Assembly:
  lines w0.254: -3,-41 1,-41 1,0 0,1 -3,1 -3,-41
  text "'.Designator'" at -0.16,-24.047 h1
Top Courtyard:
  lines w0.254: -3.5,-41.5 1.5,-41.5 1.5,1.5 -3.5,1.5 -3.5,-41.5
Top Designator:
  text ".Designator" at -8.618,-20.508 h1.52